# Altium footprint library Connector_Molex.PcbLib: 815 footprints (part 30 of 51)
Each footprint in its own frame and in the unit in brackets; x right, y up, seen from the top. Pads: shape width x height; smd on the part's side, far side on the other; paste and mask are expansions set on the pad; w line width, h text height; cw(c..) or ccw(c..) is an arc to the next point about the centre after c.
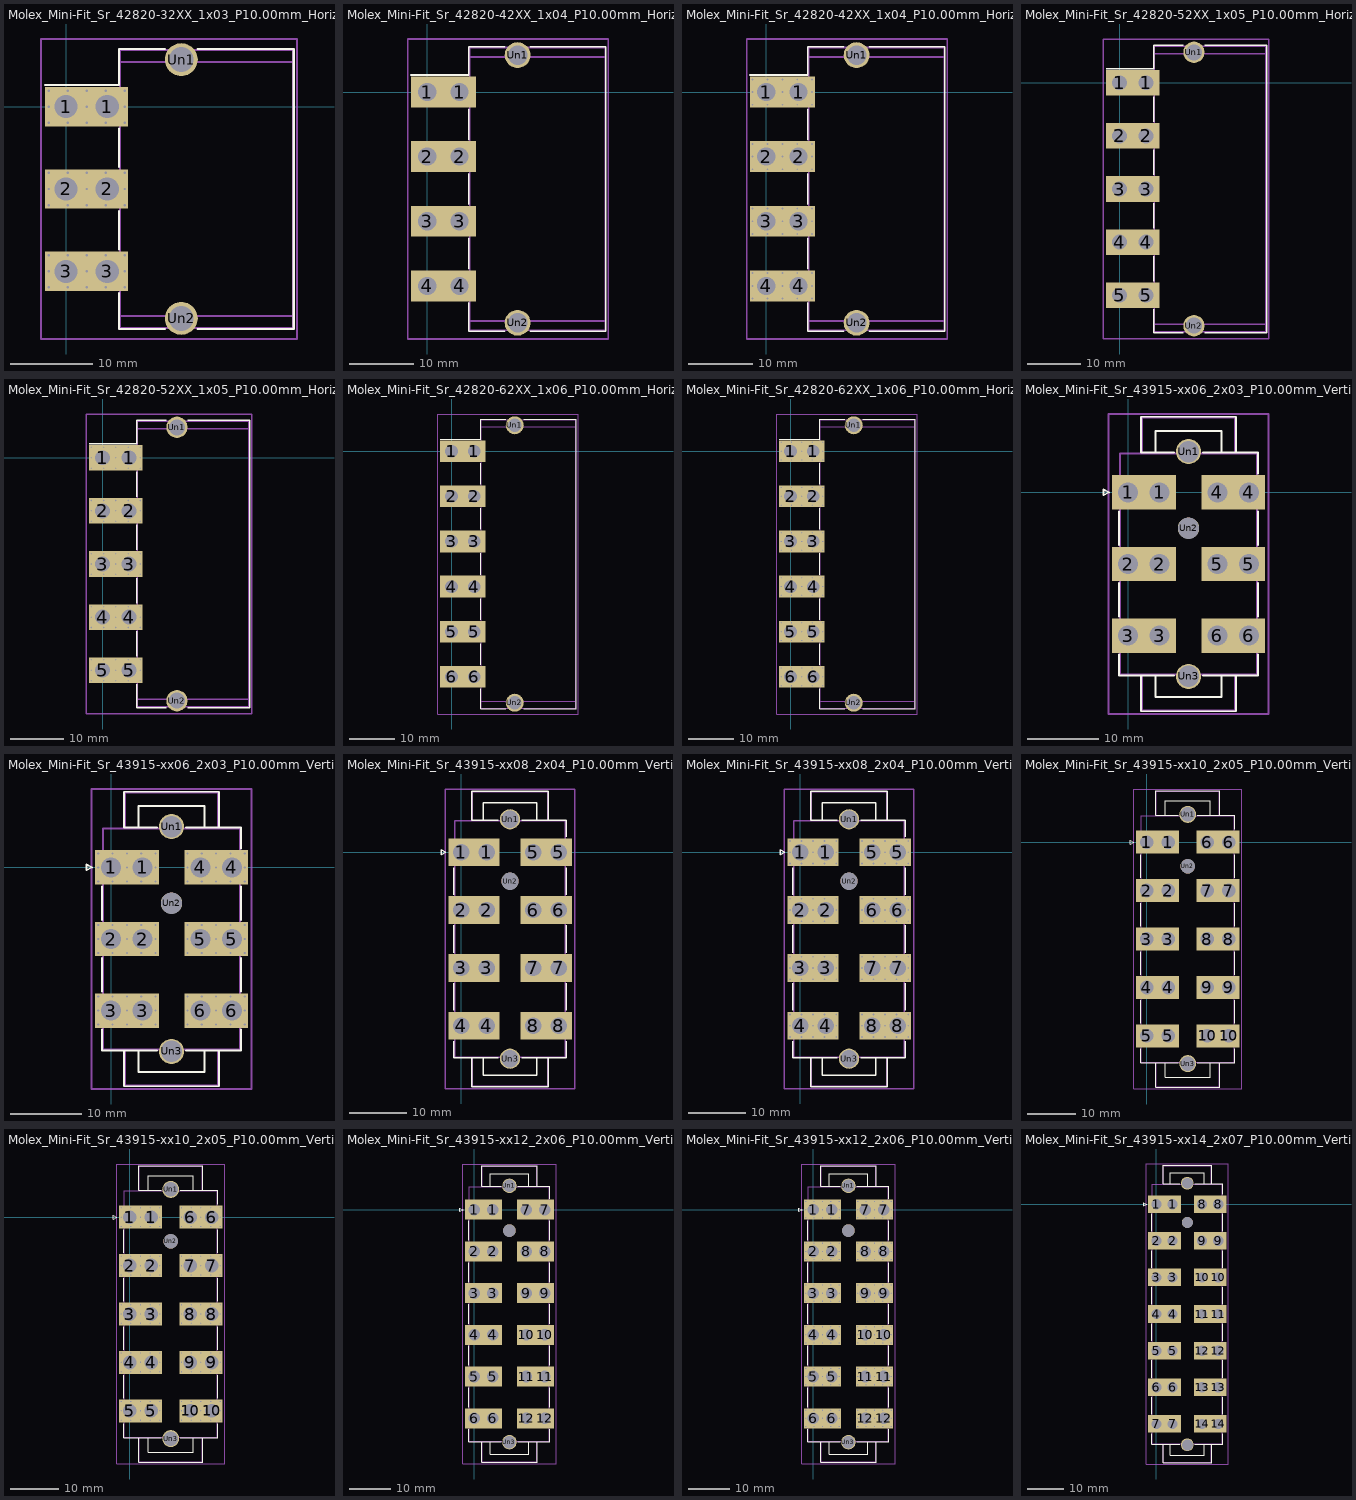
[diagram p29: the footprints below, top view; thin cyan lines are the x and y axes]

## Molex_Mini-Fit_Sr_42820-32XX_1x03_P10.00mm_Horizontal_ThermalVias [mm]
pads (47):
  rrect25% 0.6x0.6 hole 0.3: 1(-2.1,-1.95) 1(-2.1,0) 1(-2.1,1.95) 1(0.2,-1.95) 1(0.2,1.95) 1(2.5,-1.95) 1(2.5,0) 1(2.5,1.95) 1(4.8,-1.95) 1(4.8,1.95) 1(7.1,-1.95) 1(7.1,0) 1(7.1,1.95)
  rect 5.1x4.8 hole 2.8: 1(0,0) 1(5,0) 2(0,-10) 2(5,-10) 3(0,-20) 3(5,-20)
  round 0.6 hole 0.3: 2(-2.1,-11.95) 2(-2.1,-10) 2(-2.1,-8.05) 2(0.2,-11.95) 2(0.2,-8.05) 2(2.5,-11.95) 2(2.5,-10) 2(2.5,-8.05) 2(4.8,-11.95) 2(4.8,-8.05) 2(7.1,-11.95) 2(7.1,-10) 2(7.1,-8.05) 3(-2.1,-21.95) 3(-2.1,-20) 3(-2.1,-18.05) 3(0.2,-21.95) 3(0.2,-18.05) 3(2.5,-21.95) 3(2.5,-20) 3(2.5,-18.05) 3(4.8,-21.95) 3(4.8,-18.05) 3(7.1,-21.95) 3(7.1,-20) 3(7.1,-18.05)
  round 4 hole 3: Un1(14,5.73) Un2(14,-25.73)
F.SilkS:
  lines w0.254: -2.55,2.66 6.45,2.66 6.45,7.02 12,7.02 ; 6.45,-22.66 6.45,-27.02 12,-27.02 ; 6.45,-17.34 6.45,-12.66 ; 6.45,-7.34 6.45,-2.66 ; 16,-27.02 27.67,-27.02 27.67,-10 27.67,7.02 16,7.02
B.SilkS:
  lines w0.254: -2.81,-2.66 -2.81,2.66 7.81,2.66 7.81,-2.66 -2.81,-2.66
Top Assembly:
  lines w0.254: -1.04,-1.2 0.657,0 -1.04,1.2 ; 6.56,-25.45 27.56,-25.45 ; 6.56,-1.2 4.863,0 6.56,1.2 ; 6.56,5.45 27.56,5.45 ; -1.04,-21.9 -1.04,-18.1 6.56,-18.1 6.56,-21.9 -1.04,-21.9 ; -1.04,-11.9 -1.04,-8.1 6.56,-8.1 6.56,-11.9 -1.04,-11.9 ; -1.04,-1.9 -1.04,1.9 6.56,1.9 6.56,-1.9 -1.04,-1.9 ; 6.56,-26.91 6.56,6.91 27.56,6.91 27.56,-26.91 6.56,-26.91
  text "'.Designator'" at 13.013,-25.59 h1
Top Courtyard:
  lines w0.254: -3.05,-28.23 -3.05,8.23 28.06,8.23 28.06,-28.23 -3.05,-28.23
Top Designator:
  text ".Designator" at 4.887,-10.508 h1.52

## Molex_Mini-Fit_Sr_42820-42XX_1x04_P10.00mm_Horizontal [mm]
pads (10):
  rect 5.1x4.8 hole 2.8: 1(0,0) 1(5,0) 2(0,-10) 2(5,-10) 3(0,-20) 3(5,-20) 4(0,-30) 4(5,-30)
  round 4 hole 3: Un1(14,5.73) Un2(14,-35.73)
F.SilkS:
  lines w0.254: -2.55,2.66 6.45,2.66 6.45,7.02 12,7.02 ; 6.45,-32.66 6.45,-37.02 12,-37.02 ; 6.45,-27.34 6.45,-22.66 ; 6.45,-17.34 6.45,-12.66 ; 6.45,-7.34 6.45,-2.66 ; 16,-37.02 27.67,-37.02 27.67,-15 27.67,7.02 16,7.02
B.SilkS:
  lines w0.254: -2.81,-2.66 7.81,-2.66 7.81,2.66 -2.81,2.66 -2.81,-2.66
Top Assembly:
  lines w0.254: -1.04,-1.2 0.657,0 -1.04,1.2 ; 6.56,-35.45 27.56,-35.45 ; 6.56,-1.2 4.863,0 6.56,1.2 ; 6.56,5.45 27.56,5.45 ; -1.04,-31.9 6.56,-31.9 6.56,-28.1 -1.04,-28.1 -1.04,-31.9 ; -1.04,-21.9 6.56,-21.9 6.56,-18.1 -1.04,-18.1 -1.04,-21.9 ; -1.04,-11.9 6.56,-11.9 6.56,-8.1 -1.04,-8.1 -1.04,-11.9 ; -1.04,-1.9 6.56,-1.9 6.56,1.9 -1.04,1.9 -1.04,-1.9 ; 6.56,-36.91 27.56,-36.91 27.56,6.91 6.56,6.91 6.56,-36.91
  text "'.Designator'" at 13.013,-35.59 h1
Top Courtyard:
  lines w0.254: -3.05,-38.24 28.06,-38.24 28.06,8.23 -3.05,8.23 -3.05,-38.24
Top Designator:
  text ".Designator" at 4.887,-15.513 h1.52

## Molex_Mini-Fit_Sr_42820-42XX_1x04_P10.00mm_Horizontal_ThermalVias [mm]
pads (62):
  rrect25% 0.6x0.6 hole 0.3: 1(-2.1,-1.95) 1(-2.1,0) 1(-2.1,1.95) 1(0.2,-1.95) 1(0.2,1.95) 1(2.5,-1.95) 1(2.5,0) 1(2.5,1.95) 1(4.8,-1.95) 1(4.8,1.95) 1(7.1,-1.95) 1(7.1,0) 1(7.1,1.95)
  rect 5.1x4.8 hole 2.8: 1(0,0) 1(5,0) 2(0,-10) 2(5,-10) 3(0,-20) 3(5,-20) 4(0,-30) 4(5,-30)
  round 0.6 hole 0.3: 2(-2.1,-11.95) 2(-2.1,-10) 2(-2.1,-8.05) 2(0.2,-11.95) 2(0.2,-8.05) 2(2.5,-11.95) 2(2.5,-10) 2(2.5,-8.05) 2(4.8,-11.95) 2(4.8,-8.05) 2(7.1,-11.95) 2(7.1,-10) 2(7.1,-8.05) 3(-2.1,-21.95) 3(-2.1,-20) 3(-2.1,-18.05) 3(0.2,-21.95) 3(0.2,-18.05) 3(2.5,-21.95) 3(2.5,-20) 3(2.5,-18.05) 3(4.8,-21.95) 3(4.8,-18.05) 3(7.1,-21.95) 3(7.1,-20) 3(7.1,-18.05) 4(-2.1,-31.95) 4(-2.1,-30) 4(-2.1,-28.05) 4(0.2,-31.95) 4(0.2,-28.05) 4(2.5,-31.95) 4(2.5,-30) 4(2.5,-28.05) 4(4.8,-31.95) 4(4.8,-28.05) 4(7.1,-31.95) 4(7.1,-30) 4(7.1,-28.05)
  round 4 hole 3: Un1(14,5.73) Un2(14,-35.73)
F.SilkS:
  lines w0.254: -2.55,2.66 6.45,2.66 6.45,7.02 12,7.02 ; 6.45,-32.66 6.45,-37.02 12,-37.02 ; 6.45,-27.34 6.45,-22.66 ; 6.45,-17.34 6.45,-12.66 ; 6.45,-7.34 6.45,-2.66 ; 16,-37.02 27.67,-37.02 27.67,-15 27.67,7.02 16,7.02
B.SilkS:
  lines w0.254: -2.81,-2.66 7.81,-2.66 7.81,2.66 -2.81,2.66 -2.81,-2.66
Top Assembly:
  lines w0.254: -1.04,-1.2 0.657,0 -1.04,1.2 ; 6.56,-35.45 27.56,-35.45 ; 6.56,-1.2 4.863,0 6.56,1.2 ; 6.56,5.45 27.56,5.45 ; -1.04,-31.9 6.56,-31.9 6.56,-28.1 -1.04,-28.1 -1.04,-31.9 ; -1.04,-21.9 6.56,-21.9 6.56,-18.1 -1.04,-18.1 -1.04,-21.9 ; -1.04,-11.9 6.56,-11.9 6.56,-8.1 -1.04,-8.1 -1.04,-11.9 ; -1.04,-1.9 6.56,-1.9 6.56,1.9 -1.04,1.9 -1.04,-1.9 ; 6.56,-36.91 27.56,-36.91 27.56,6.91 6.56,6.91 6.56,-36.91
  text "'.Designator'" at 13.013,-35.59 h1
Top Courtyard:
  lines w0.254: -3.05,-38.24 28.06,-38.24 28.06,8.23 -3.05,8.23 -3.05,-38.24
Top Designator:
  text ".Designator" at 4.887,-15.513 h1.52

## Molex_Mini-Fit_Sr_42820-52XX_1x05_P10.00mm_Horizontal [mm]
pads (12):
  rect 5.1x4.8 hole 2.8: 1(0,0) 1(5,0) 2(0,-10) 2(5,-10) 3(0,-20) 3(5,-20) 4(0,-30) 4(5,-30) 5(0,-40) 5(5,-40)
  round 4 hole 3: Un1(14,5.73) Un2(14,-45.73)
F.SilkS:
  lines w0.254: -2.55,2.66 6.45,2.66 6.45,7.02 12,7.02 ; 6.45,-42.66 6.45,-47.02 12,-47.02 ; 6.45,-37.34 6.45,-32.66 ; 6.45,-27.34 6.45,-22.66 ; 6.45,-17.34 6.45,-12.66 ; 6.45,-7.34 6.45,-2.66 ; 16,-47.02 27.67,-47.02 27.67,-20 27.67,7.02 16,7.02
B.SilkS:
  lines w0.254: -2.81,-2.66 -2.81,2.66 7.81,2.66 7.81,-2.66 -2.81,-2.66
Top Assembly:
  lines w0.254: -1.04,-1.2 0.657,0 -1.04,1.2 ; 6.56,-45.45 27.56,-45.45 ; 6.56,-1.2 4.863,0 6.56,1.2 ; 6.56,5.45 27.56,5.45 ; -1.04,-41.9 -1.04,-38.1 6.56,-38.1 6.56,-41.9 -1.04,-41.9 ; -1.04,-31.9 -1.04,-28.1 6.56,-28.1 6.56,-31.9 -1.04,-31.9 ; -1.04,-21.9 -1.04,-18.1 6.56,-18.1 6.56,-21.9 -1.04,-21.9 ; -1.04,-11.9 -1.04,-8.1 6.56,-8.1 6.56,-11.9 -1.04,-11.9 ; -1.04,-1.9 -1.04,1.9 6.56,1.9 6.56,-1.9 -1.04,-1.9 ; 6.56,-46.91 6.56,6.91 27.56,6.91 27.56,-46.91 6.56,-46.91
  text "'.Designator'" at 13.013,-45.59 h1
Top Courtyard:
  lines w0.254: -3.05,-48.23 -3.05,8.23 28.06,8.23 28.06,-48.23 -3.05,-48.23
Top Designator:
  text ".Designator" at 4.887,-20.508 h1.52

## Molex_Mini-Fit_Sr_42820-52XX_1x05_P10.00mm_Horizontal_ThermalVias [mm]
pads (77):
  rrect25% 0.6x0.6 hole 0.3: 1(-2.1,-1.95) 1(-2.1,0) 1(-2.1,1.95) 1(0.2,-1.95) 1(0.2,1.95) 1(2.5,-1.95) 1(2.5,0) 1(2.5,1.95) 1(4.8,-1.95) 1(4.8,1.95) 1(7.1,-1.95) 1(7.1,0) 1(7.1,1.95)
  rect 5.1x4.8 hole 2.8: 1(0,0) 1(5,0) 2(0,-10) 2(5,-10) 3(0,-20) 3(5,-20) 4(0,-30) 4(5,-30) 5(0,-40) 5(5,-40)
  round 0.6 hole 0.3: 2(-2.1,-11.95) 2(-2.1,-10) 2(-2.1,-8.05) 2(0.2,-11.95) 2(0.2,-8.05) 2(2.5,-11.95) 2(2.5,-10) 2(2.5,-8.05) 2(4.8,-11.95) 2(4.8,-8.05) 2(7.1,-11.95) 2(7.1,-10) 2(7.1,-8.05) 3(-2.1,-21.95) 3(-2.1,-20) 3(-2.1,-18.05) 3(0.2,-21.95) 3(0.2,-18.05) 3(2.5,-21.95) 3(2.5,-20) 3(2.5,-18.05) 3(4.8,-21.95) 3(4.8,-18.05) 3(7.1,-21.95) 3(7.1,-20) 3(7.1,-18.05) 4(-2.1,-31.95) 4(-2.1,-30) 4(-2.1,-28.05) 4(0.2,-31.95) 4(0.2,-28.05) 4(2.5,-31.95) 4(2.5,-30) 4(2.5,-28.05) 4(4.8,-31.95) 4(4.8,-28.05) 4(7.1,-31.95) 4(7.1,-30) 4(7.1,-28.05) 5(-2.1,-41.95) 5(-2.1,-40) 5(-2.1,-38.05) 5(0.2,-41.95) 5(0.2,-38.05) 5(2.5,-41.95) 5(2.5,-40) 5(2.5,-38.05) 5(4.8,-41.95) 5(4.8,-38.05) 5(7.1,-41.95) 5(7.1,-40) 5(7.1,-38.05)
  round 4 hole 3: Un1(14,5.73) Un2(14,-45.73)
F.SilkS:
  lines w0.254: -2.55,2.66 6.45,2.66 6.45,7.02 12,7.02 ; 6.45,-42.66 6.45,-47.02 12,-47.02 ; 6.45,-37.34 6.45,-32.66 ; 6.45,-27.34 6.45,-22.66 ; 6.45,-17.34 6.45,-12.66 ; 6.45,-7.34 6.45,-2.66 ; 16,-47.02 27.67,-47.02 27.67,-20 27.67,7.02 16,7.02
B.SilkS:
  lines w0.254: -2.81,-2.66 -2.81,2.66 7.81,2.66 7.81,-2.66 -2.81,-2.66
Top Assembly:
  lines w0.254: -1.04,-1.2 0.657,0 -1.04,1.2 ; 6.56,-45.45 27.56,-45.45 ; 6.56,-1.2 4.863,0 6.56,1.2 ; 6.56,5.45 27.56,5.45 ; -1.04,-41.9 -1.04,-38.1 6.56,-38.1 6.56,-41.9 -1.04,-41.9 ; -1.04,-31.9 -1.04,-28.1 6.56,-28.1 6.56,-31.9 -1.04,-31.9 ; -1.04,-21.9 -1.04,-18.1 6.56,-18.1 6.56,-21.9 -1.04,-21.9 ; -1.04,-11.9 -1.04,-8.1 6.56,-8.1 6.56,-11.9 -1.04,-11.9 ; -1.04,-1.9 -1.04,1.9 6.56,1.9 6.56,-1.9 -1.04,-1.9 ; 6.56,-46.91 6.56,6.91 27.56,6.91 27.56,-46.91 6.56,-46.91
  text "'.Designator'" at 13.013,-45.59 h1
Top Courtyard:
  lines w0.254: -3.05,-48.23 -3.05,8.23 28.06,8.23 28.06,-48.23 -3.05,-48.23
Top Designator:
  text ".Designator" at 4.887,-20.508 h1.52

## Molex_Mini-Fit_Sr_42820-62XX_1x06_P10.00mm_Horizontal [mm]
pads (14):
  rect 5.1x4.8 hole 2.8: 1(0,0) 1(5,0) 2(0,-10) 2(5,-10) 3(0,-20) 3(5,-20) 4(0,-30) 4(5,-30) 5(0,-40) 5(5,-40) 6(0,-50) 6(5,-50)
  round 4 hole 3: Un1(14,5.73) Un2(14,-55.73)
F.SilkS:
  lines w0.254: -2.55,2.66 6.45,2.66 6.45,7.02 12,7.02 ; 6.45,-52.66 6.45,-57.02 12,-57.02 ; 6.45,-47.34 6.45,-42.66 ; 6.45,-37.34 6.45,-32.66 ; 6.45,-27.34 6.45,-22.66 ; 6.45,-17.34 6.45,-12.66 ; 6.45,-7.34 6.45,-2.66 ; 16,-57.02 27.67,-57.02 27.67,-25 27.67,7.02 16,7.02
B.SilkS:
  lines w0.254: -2.81,-2.66 7.81,-2.66 7.81,2.66 -2.81,2.66 -2.81,-2.66
Top Assembly:
  lines w0.254: -1.04,-1.2 0.657,0 -1.04,1.2 ; 6.56,-55.45 27.56,-55.45 ; 6.56,-1.2 4.863,0 6.56,1.2 ; 6.56,5.45 27.56,5.45 ; -1.04,-51.9 6.56,-51.9 6.56,-48.1 -1.04,-48.1 -1.04,-51.9 ; -1.04,-41.9 6.56,-41.9 6.56,-38.1 -1.04,-38.1 -1.04,-41.9 ; -1.04,-31.9 6.56,-31.9 6.56,-28.1 -1.04,-28.1 -1.04,-31.9 ; -1.04,-21.9 6.56,-21.9 6.56,-18.1 -1.04,-18.1 -1.04,-21.9 ; -1.04,-11.9 6.56,-11.9 6.56,-8.1 -1.04,-8.1 -1.04,-11.9 ; -1.04,-1.9 6.56,-1.9 6.56,1.9 -1.04,1.9 -1.04,-1.9 ; 6.56,-56.91 27.56,-56.91 27.56,6.91 6.56,6.91 6.56,-56.91
  text "'.Designator'" at 13.013,-55.59 h1
Top Courtyard:
  lines w0.254: -3.05,-58.23 28.06,-58.23 28.06,8.23 -3.05,8.23 -3.05,-58.23
Top Designator:
  text ".Designator" at 4.887,-25.508 h1.52

## Molex_Mini-Fit_Sr_42820-62XX_1x06_P10.00mm_Horizontal_ThermalVias [mm]
pads (92):
  rrect25% 0.6x0.6 hole 0.3: 1(-2.1,-1.95) 1(-2.1,0) 1(-2.1,1.95) 1(0.2,-1.95) 1(0.2,1.95) 1(2.5,-1.95) 1(2.5,0) 1(2.5,1.95) 1(4.8,-1.95) 1(4.8,1.95) 1(7.1,-1.95) 1(7.1,0) 1(7.1,1.95)
  rect 5.1x4.8 hole 2.8: 1(0,0) 1(5,0) 2(0,-10) 2(5,-10) 3(0,-20) 3(5,-20) 4(0,-30) 4(5,-30) 5(0,-40) 5(5,-40) 6(0,-50) 6(5,-50)
  round 0.6 hole 0.3: 2(-2.1,-11.95) 2(-2.1,-10) 2(-2.1,-8.05) 2(0.2,-11.95) 2(0.2,-8.05) 2(2.5,-11.95) 2(2.5,-10) 2(2.5,-8.05) 2(4.8,-11.95) 2(4.8,-8.05) 2(7.1,-11.95) 2(7.1,-10) 2(7.1,-8.05) 3(-2.1,-21.95) 3(-2.1,-20) 3(-2.1,-18.05) 3(0.2,-21.95) 3(0.2,-18.05) 3(2.5,-21.95) 3(2.5,-20) 3(2.5,-18.05) 3(4.8,-21.95) 3(4.8,-18.05) 3(7.1,-21.95) 3(7.1,-20) 3(7.1,-18.05) 4(-2.1,-31.95) 4(-2.1,-30) 4(-2.1,-28.05) 4(0.2,-31.95) 4(0.2,-28.05) 4(2.5,-31.95) 4(2.5,-30) 4(2.5,-28.05) 4(4.8,-31.95) 4(4.8,-28.05) 4(7.1,-31.95) 4(7.1,-30) 4(7.1,-28.05) 5(-2.1,-41.95) 5(-2.1,-40) 5(-2.1,-38.05) 5(0.2,-41.95) 5(0.2,-38.05) 5(2.5,-41.95) 5(2.5,-40) 5(2.5,-38.05) 5(4.8,-41.95) 5(4.8,-38.05) 5(7.1,-41.95) 5(7.1,-40) 5(7.1,-38.05) 6(-2.1,-51.95) 6(-2.1,-50) 6(-2.1,-48.05) 6(0.2,-51.95) 6(0.2,-48.05) 6(2.5,-51.95) 6(2.5,-50) 6(2.5,-48.05) 6(4.8,-51.95) 6(4.8,-48.05) 6(7.1,-51.95) 6(7.1,-50) 6(7.1,-48.05)
  round 4 hole 3: Un1(14,5.73) Un2(14,-55.73)
F.SilkS:
  lines w0.254: -2.55,2.66 6.45,2.66 6.45,7.02 12,7.02 ; 6.45,-52.66 6.45,-57.02 12,-57.02 ; 6.45,-47.34 6.45,-42.66 ; 6.45,-37.34 6.45,-32.66 ; 6.45,-27.34 6.45,-22.66 ; 6.45,-17.34 6.45,-12.66 ; 6.45,-7.34 6.45,-2.66 ; 16,-57.02 27.67,-57.02 27.67,-25 27.67,7.02 16,7.02
B.SilkS:
  lines w0.254: -2.81,-2.66 7.81,-2.66 7.81,2.66 -2.81,2.66 -2.81,-2.66
Top Assembly:
  lines w0.254: -1.04,-1.2 0.657,0 -1.04,1.2 ; 6.56,-55.45 27.56,-55.45 ; 6.56,-1.2 4.863,0 6.56,1.2 ; 6.56,5.45 27.56,5.45 ; -1.04,-51.9 6.56,-51.9 6.56,-48.1 -1.04,-48.1 -1.04,-51.9 ; -1.04,-41.9 6.56,-41.9 6.56,-38.1 -1.04,-38.1 -1.04,-41.9 ; -1.04,-31.9 6.56,-31.9 6.56,-28.1 -1.04,-28.1 -1.04,-31.9 ; -1.04,-21.9 6.56,-21.9 6.56,-18.1 -1.04,-18.1 -1.04,-21.9 ; -1.04,-11.9 6.56,-11.9 6.56,-8.1 -1.04,-8.1 -1.04,-11.9 ; -1.04,-1.9 6.56,-1.9 6.56,1.9 -1.04,1.9 -1.04,-1.9 ; 6.56,-56.91 27.56,-56.91 27.56,6.91 6.56,6.91 6.56,-56.91
  text "'.Designator'" at 13.013,-55.59 h1
Top Courtyard:
  lines w0.254: -3.05,-58.23 28.06,-58.23 28.06,8.23 -3.05,8.23 -3.05,-58.23
Top Designator:
  text ".Designator" at 4.887,-25.508 h1.52

## Molex_Mini-Fit_Sr_43915-xx06_2x03_P10.00mm_Vertical [mm]
pads (15):
  rect 4.5x4.8 hole 2.8: 1(0,0) 1(4.4,0) 2(0,-10) 2(4.4,-10) 3(0,-20) 3(4.4,-20) 4(12.46,0) 4(16.86,0) 5(12.46,-10) 5(16.86,-10) 6(12.46,-20) 6(16.86,-20)
  round 3.5 hole 3: Un1(8.43,5.705) Un3(8.43,-25.705)
  round 3 hole 3: Un2(8.43,-5)
F.SilkS:
  lines w0.254: -1.27,-22.66 -1.27,-25.57 6.43,-25.57 ; -1.27,-17.34 -1.27,-12.66 ; -1.27,-7.34 -1.27,-2.66 ; 1.81,-25.57 1.81,-30.57 15.05,-30.57 15.05,-25.57 ; 3.81,-25.57 3.81,-28.57 13.05,-28.57 13.05,-25.57 ; 3.81,5.57 3.81,8.57 13.05,8.57 13.05,5.57 ; 6.43,5.57 1.81,5.57 1.81,10.57 15.05,10.57 15.05,5.57 ; 10.43,-25.57 18.13,-25.57 18.13,-22.66 ; 10.43,5.57 18.13,5.57 18.13,2.66 ; 18.13,-17.34 18.13,-12.66 ; 18.13,-7.34 18.13,-2.66 ; -3.45,-0.4 -2.65,0 -3.45,0.4 -3.45,-0.4
B.SilkS:
  lines w0.254: -2.51,-2.66 6.91,-2.66 6.91,2.66 -2.51,2.66 -2.51,-2.66
Top Assembly:
  lines w0.254: -1.15,-1.5 0.971,0 -1.15,1.5 ; 1.93,-25.45 1.93,-30.45 14.93,-30.45 14.93,-25.45 ; 1.93,5.45 1.93,10.45 14.93,10.45 14.93,5.45 ; -1.15,-25.45 18.01,-25.45 18.01,5.45 -1.15,5.45 -1.15,-25.45
  text "'.Designator'" at 4.383,-25.59 h1
Top Courtyard:
  lines w0.254: -2.75,-30.95 19.61,-30.95 19.61,10.95 -2.75,10.95 -2.75,-30.95
Top Designator:
  text ".Designator" at 0.462,-10.508 h1.52

## Molex_Mini-Fit_Sr_43915-xx06_2x03_P10.00mm_Vertical_ThermalVias [mm]
pads (93):
  rrect25% 0.6x0.6 hole 0.3: 1(-1.8,-1.95) 1(-1.8,0) 1(-1.8,1.95) 1(0.2,-1.95) 1(0.2,1.95) 1(2.2,-1.95) 1(2.2,0) 1(2.2,1.95) 1(4.2,-1.95) 1(4.2,1.95) 1(6.2,-1.95) 1(6.2,0) 1(6.2,1.95)
  rect 4.5x4.8 hole 2.8: 1(0,0) 1(4.4,0) 2(0,-10) 2(4.4,-10) 3(0,-20) 3(4.4,-20) 4(12.46,0) 4(16.86,0) 5(12.46,-10) 5(16.86,-10) 6(12.46,-20) 6(16.86,-20)
  round 0.6 hole 0.3: 2(-1.8,-11.95) 2(-1.8,-10) 2(-1.8,-8.05) 2(0.2,-11.95) 2(0.2,-8.05) 2(2.2,-11.95) 2(2.2,-10) 2(2.2,-8.05) 2(4.2,-11.95) 2(4.2,-8.05) 2(6.2,-11.95) 2(6.2,-10) 2(6.2,-8.05) 3(-1.8,-21.95) 3(-1.8,-20) 3(-1.8,-18.05) 3(0.2,-21.95) 3(0.2,-18.05) 3(2.2,-21.95) 3(2.2,-20) 3(2.2,-18.05) 3(4.2,-21.95) 3(4.2,-18.05) 3(6.2,-21.95) 3(6.2,-20) 3(6.2,-18.05) 4(10.66,-1.95) 4(10.66,0) 4(10.66,1.95) 4(12.66,-1.95) 4(12.66,1.95) 4(14.66,-1.95) 4(14.66,0) 4(14.66,1.95) 4(16.66,-1.95) 4(16.66,1.95) 4(18.66,-1.95) 4(18.66,0) 4(18.66,1.95) 5(10.66,-11.95) 5(10.66,-10) 5(10.66,-8.05) 5(12.66,-11.95) 5(12.66,-8.05) 5(14.66,-11.95) 5(14.66,-10) 5(14.66,-8.05) 5(16.66,-11.95) 5(16.66,-8.05) 5(18.66,-11.95) 5(18.66,-10) 5(18.66,-8.05) 6(10.66,-21.95) 6(10.66,-20) 6(10.66,-18.05) 6(12.66,-21.95) 6(12.66,-18.05) 6(14.66,-21.95) 6(14.66,-20) 6(14.66,-18.05) 6(16.66,-21.95) 6(16.66,-18.05) 6(18.66,-21.95) 6(18.66,-20) 6(18.66,-18.05)
  round 3.5 hole 3: Un1(8.43,5.705) Un3(8.43,-25.705)
  round 3 hole 3: Un2(8.43,-5)
F.SilkS:
  lines w0.254: -1.27,-22.66 -1.27,-25.57 6.43,-25.57 ; -1.27,-17.34 -1.27,-12.66 ; -1.27,-7.34 -1.27,-2.66 ; 1.81,-25.57 1.81,-30.57 15.05,-30.57 15.05,-25.57 ; 3.81,-25.57 3.81,-28.57 13.05,-28.57 13.05,-25.57 ; 3.81,5.57 3.81,8.57 13.05,8.57 13.05,5.57 ; 6.43,5.57 1.81,5.57 1.81,10.57 15.05,10.57 15.05,5.57 ; 10.43,-25.57 18.13,-25.57 18.13,-22.66 ; 10.43,5.57 18.13,5.57 18.13,2.66 ; 18.13,-17.34 18.13,-12.66 ; 18.13,-7.34 18.13,-2.66 ; -3.45,-0.4 -2.65,0 -3.45,0.4 -3.45,-0.4
B.SilkS:
  lines w0.254: -2.51,-2.66 6.91,-2.66 6.91,2.66 -2.51,2.66 -2.51,-2.66
Top Assembly:
  lines w0.254: -1.15,-1.5 0.971,0 -1.15,1.5 ; 1.93,-25.45 1.93,-30.45 14.93,-30.45 14.93,-25.45 ; 1.93,5.45 1.93,10.45 14.93,10.45 14.93,5.45 ; -1.15,-25.45 18.01,-25.45 18.01,5.45 -1.15,5.45 -1.15,-25.45
  text "'.Designator'" at 4.383,-25.59 h1
Top Courtyard:
  lines w0.254: -2.75,-30.95 19.61,-30.95 19.61,10.95 -2.75,10.95 -2.75,-30.95
Top Designator:
  text ".Designator" at 0.462,-10.508 h1.52

## Molex_Mini-Fit_Sr_43915-xx08_2x04_P10.00mm_Vertical [mm]
pads (19):
  rect 4.5x4.8 hole 2.8: 1(0,0) 1(4.4,0) 2(0,-10) 2(4.4,-10) 3(0,-20) 3(4.4,-20) 4(0,-30) 4(4.4,-30) 5(12.46,0) 5(16.86,0) 6(12.46,-10) 6(16.86,-10) 7(12.46,-20) 7(16.86,-20) 8(12.46,-30) 8(16.86,-30)
  round 3.5 hole 3: Un1(8.43,5.705) Un3(8.43,-35.705)
  round 3 hole 3: Un2(8.43,-5)
F.SilkS:
  lines w0.254: -1.27,-32.66 -1.27,-35.57 6.43,-35.57 ; -1.27,-27.34 -1.27,-22.66 ; -1.27,-17.34 -1.27,-12.66 ; -1.27,-7.34 -1.27,-2.66 ; 1.81,-35.57 1.81,-40.57 15.05,-40.57 15.05,-35.57 ; 3.81,-35.57 3.81,-38.57 13.05,-38.57 13.05,-35.57 ; 3.81,5.57 3.81,8.57 13.05,8.57 13.05,5.57 ; 6.43,5.57 1.81,5.57 1.81,10.57 15.05,10.57 15.05,5.57 ; 10.43,-35.57 18.13,-35.57 18.13,-32.66 ; 10.43,5.57 18.13,5.57 18.13,2.66 ; 18.13,-27.34 18.13,-22.66 ; 18.13,-17.34 18.13,-12.66 ; 18.13,-7.34 18.13,-2.66 ; -3.45,-0.4 -2.65,0 -3.45,0.4 -3.45,-0.4
B.SilkS:
  lines w0.254: -2.51,-2.66 6.91,-2.66 6.91,2.66 -2.51,2.66 -2.51,-2.66
Top Assembly:
  lines w0.254: -1.15,-1.5 0.971,0 -1.15,1.5 ; 1.93,-35.45 1.93,-40.45 14.93,-40.45 14.93,-35.45 ; 1.93,5.45 1.93,10.45 14.93,10.45 14.93,5.45 ; -1.15,-35.45 18.01,-35.45 18.01,5.45 -1.15,5.45 -1.15,-35.45
  text "'.Designator'" at 4.383,-35.59 h1
Top Courtyard:
  lines w0.254: -2.75,-40.95 19.61,-40.95 19.61,10.95 -2.75,10.95 -2.75,-40.95
Top Designator:
  text ".Designator" at 0.462,-15.508 h1.52

## Molex_Mini-Fit_Sr_43915-xx08_2x04_P10.00mm_Vertical_ThermalVias [mm]
pads (123):
  rrect25% 0.6x0.6 hole 0.3: 1(-1.8,-1.95) 1(-1.8,0) 1(-1.8,1.95) 1(0.2,-1.95) 1(0.2,1.95) 1(2.2,-1.95) 1(2.2,0) 1(2.2,1.95) 1(4.2,-1.95) 1(4.2,1.95) 1(6.2,-1.95) 1(6.2,0) 1(6.2,1.95)
  rect 4.5x4.8 hole 2.8: 1(0,0) 1(4.4,0) 2(0,-10) 2(4.4,-10) 3(0,-20) 3(4.4,-20) 4(0,-30) 4(4.4,-30) 5(12.46,0) 5(16.86,0) 6(12.46,-10) 6(16.86,-10) 7(12.46,-20) 7(16.86,-20) 8(12.46,-30) 8(16.86,-30)
  round 0.6 hole 0.3: 2(-1.8,-11.95) 2(-1.8,-10) 2(-1.8,-8.05) 2(0.2,-11.95) 2(0.2,-8.05) 2(2.2,-11.95) 2(2.2,-10) 2(2.2,-8.05) 2(4.2,-11.95) 2(4.2,-8.05) 2(6.2,-11.95) 2(6.2,-10) 2(6.2,-8.05) 3(-1.8,-21.95) 3(-1.8,-20) 3(-1.8,-18.05) 3(0.2,-21.95) 3(0.2,-18.05) 3(2.2,-21.95) 3(2.2,-20) 3(2.2,-18.05) 3(4.2,-21.95) 3(4.2,-18.05) 3(6.2,-21.95) 3(6.2,-20) 3(6.2,-18.05) 4(-1.8,-31.95) 4(-1.8,-30) 4(-1.8,-28.05) 4(0.2,-31.95) 4(0.2,-28.05) 4(2.2,-31.95) 4(2.2,-30) 4(2.2,-28.05) 4(4.2,-31.95) 4(4.2,-28.05) 4(6.2,-31.95) 4(6.2,-30) 4(6.2,-28.05) 5(10.66,-1.95) 5(10.66,0) 5(10.66,1.95) 5(12.66,-1.95) 5(12.66,1.95) 5(14.66,-1.95) 5(14.66,0) 5(14.66,1.95) 5(16.66,-1.95) 5(16.66,1.95) 5(18.66,-1.95) 5(18.66,0) 5(18.66,1.95) 6(10.66,-11.95) 6(10.66,-10) 6(10.66,-8.05) 6(12.66,-11.95) 6(12.66,-8.05) 6(14.66,-11.95) 6(14.66,-10) 6(14.66,-8.05) 6(16.66,-11.95) 6(16.66,-8.05) 6(18.66,-11.95) 6(18.66,-10) 6(18.66,-8.05) 7(10.66,-21.95) 7(10.66,-20) 7(10.66,-18.05) 7(12.66,-21.95) 7(12.66,-18.05) 7(14.66,-21.95) 7(14.66,-20) 7(14.66,-18.05) 7(16.66,-21.95) 7(16.66,-18.05) 7(18.66,-21.95) 7(18.66,-20) 7(18.66,-18.05) 8(10.66,-31.95) 8(10.66,-30) 8(10.66,-28.05) 8(12.66,-31.95) 8(12.66,-28.05) 8(14.66,-31.95) 8(14.66,-30) 8(14.66,-28.05) 8(16.66,-31.95) 8(16.66,-28.05) 8(18.66,-31.95) 8(18.66,-30) 8(18.66,-28.05)
  round 3.5 hole 3: Un1(8.43,5.705) Un3(8.43,-35.705)
  round 3 hole 3: Un2(8.43,-5)
F.SilkS:
  lines w0.254: -1.27,-32.66 -1.27,-35.57 6.43,-35.57 ; -1.27,-27.34 -1.27,-22.66 ; -1.27,-17.34 -1.27,-12.66 ; -1.27,-7.34 -1.27,-2.66 ; 1.81,-35.57 1.81,-40.57 15.05,-40.57 15.05,-35.57 ; 3.81,-35.57 3.81,-38.57 13.05,-38.57 13.05,-35.57 ; 3.81,5.57 3.81,8.57 13.05,8.57 13.05,5.57 ; 6.43,5.57 1.81,5.57 1.81,10.57 15.05,10.57 15.05,5.57 ; 10.43,-35.57 18.13,-35.57 18.13,-32.66 ; 10.43,5.57 18.13,5.57 18.13,2.66 ; 18.13,-27.34 18.13,-22.66 ; 18.13,-17.34 18.13,-12.66 ; 18.13,-7.34 18.13,-2.66 ; -3.45,-0.4 -2.65,0 -3.45,0.4 -3.45,-0.4
B.SilkS:
  lines w0.254: -2.51,-2.66 6.91,-2.66 6.91,2.66 -2.51,2.66 -2.51,-2.66
Top Assembly:
  lines w0.254: -1.15,-1.5 0.971,0 -1.15,1.5 ; 1.93,-35.45 1.93,-40.45 14.93,-40.45 14.93,-35.45 ; 1.93,5.45 1.93,10.45 14.93,10.45 14.93,5.45 ; -1.15,-35.45 18.01,-35.45 18.01,5.45 -1.15,5.45 -1.15,-35.45
  text "'.Designator'" at 4.383,-35.59 h1
Top Courtyard:
  lines w0.254: -2.75,-40.95 19.61,-40.95 19.61,10.95 -2.75,10.95 -2.75,-40.95
Top Designator:
  text ".Designator" at 0.462,-15.508 h1.52

## Molex_Mini-Fit_Sr_43915-xx10_2x05_P10.00mm_Vertical [mm]
pads (23):
  rect 4.5x4.8 hole 2.8: 1(0,0) 1(4.4,0) 2(0,-10) 2(4.4,-10) 3(0,-20) 3(4.4,-20) 4(0,-30) 4(4.4,-30) 5(0,-40) 5(4.4,-40) 6(12.46,0) 6(16.86,0) 7(12.46,-10) 7(16.86,-10) 8(12.46,-20) 8(16.86,-20) 9(12.46,-30) 9(16.86,-30) 10(12.46,-40) 10(16.86,-40)
  round 3.5 hole 3: Un1(8.43,5.705) Un3(8.43,-45.705)
  round 3 hole 3: Un2(8.43,-5)
F.SilkS:
  lines w0.254: -1.27,-42.66 -1.27,-45.57 6.43,-45.57 ; -1.27,-37.34 -1.27,-32.66 ; -1.27,-27.34 -1.27,-22.66 ; -1.27,-17.34 -1.27,-12.66 ; -1.27,-7.34 -1.27,-2.66 ; 1.81,-45.57 1.81,-50.57 15.05,-50.57 15.05,-45.57 ; 3.81,-45.57 3.81,-48.57 13.05,-48.57 13.05,-45.57 ; 3.81,5.57 3.81,8.57 13.05,8.57 13.05,5.57 ; 6.43,5.57 1.81,5.57 1.81,10.57 15.05,10.57 15.05,5.57 ; 10.43,-45.57 18.13,-45.57 18.13,-42.66 ; 10.43,5.57 18.13,5.57 18.13,2.66 ; 18.13,-37.34 18.13,-32.66 ; 18.13,-27.34 18.13,-22.66 ; 18.13,-17.34 18.13,-12.66 ; 18.13,-7.34 18.13,-2.66 ; -3.45,-0.4 -2.65,0 -3.45,0.4 -3.45,-0.4
B.SilkS:
  lines w0.254: -2.51,-2.66 6.91,-2.66 6.91,2.66 -2.51,2.66 -2.51,-2.66
Top Assembly:
  lines w0.254: -1.15,-1.5 0.971,0 -1.15,1.5 ; 1.93,-45.45 1.93,-50.45 14.93,-50.45 14.93,-45.45 ; 1.93,5.45 1.93,10.45 14.93,10.45 14.93,5.45 ; -1.15,-45.45 18.01,-45.45 18.01,5.45 -1.15,5.45 -1.15,-45.45
  text "'.Designator'" at 4.383,-45.59 h1
Top Courtyard:
  lines w0.254: -2.75,-50.95 19.61,-50.95 19.61,10.95 -2.75,10.95 -2.75,-50.95
Top Designator:
  text ".Designator" at 0.462,-20.508 h1.52

## Molex_Mini-Fit_Sr_43915-xx10_2x05_P10.00mm_Vertical_ThermalVias [mm]
pads (153):
  rrect25% 0.6x0.6 hole 0.3: 1(-1.8,-1.95) 1(-1.8,0) 1(-1.8,1.95) 1(0.2,-1.95) 1(0.2,1.95) 1(2.2,-1.95) 1(2.2,0) 1(2.2,1.95) 1(4.2,-1.95) 1(4.2,1.95) 1(6.2,-1.95) 1(6.2,0) 1(6.2,1.95)
  rect 4.5x4.8 hole 2.8: 1(0,0) 1(4.4,0) 2(0,-10) 2(4.4,-10) 3(0,-20) 3(4.4,-20) 4(0,-30) 4(4.4,-30) 5(0,-40) 5(4.4,-40) 6(12.46,0) 6(16.86,0) 7(12.46,-10) 7(16.86,-10) 8(12.46,-20) 8(16.86,-20) 9(12.46,-30) 9(16.86,-30) 10(12.46,-40) 10(16.86,-40)
  round 0.6 hole 0.3: 2(-1.8,-11.95) 2(-1.8,-10) 2(-1.8,-8.05) 2(0.2,-11.95) 2(0.2,-8.05) 2(2.2,-11.95) 2(2.2,-10) 2(2.2,-8.05) 2(4.2,-11.95) 2(4.2,-8.05) 2(6.2,-11.95) 2(6.2,-10) 2(6.2,-8.05) 3(-1.8,-21.95) 3(-1.8,-20) 3(-1.8,-18.05) 3(0.2,-21.95) 3(0.2,-18.05) 3(2.2,-21.95) 3(2.2,-20) 3(2.2,-18.05) 3(4.2,-21.95) 3(4.2,-18.05) 3(6.2,-21.95) 3(6.2,-20) 3(6.2,-18.05) 4(-1.8,-31.95) 4(-1.8,-30) 4(-1.8,-28.05) 4(0.2,-31.95) 4(0.2,-28.05) 4(2.2,-31.95) 4(2.2,-30) 4(2.2,-28.05) 4(4.2,-31.95) 4(4.2,-28.05) 4(6.2,-31.95) 4(6.2,-30) 4(6.2,-28.05) 5(-1.8,-41.95) 5(-1.8,-40) 5(-1.8,-38.05) 5(0.2,-41.95) 5(0.2,-38.05) 5(2.2,-41.95) 5(2.2,-40) 5(2.2,-38.05) 5(4.2,-41.95) 5(4.2,-38.05) 5(6.2,-41.95) 5(6.2,-40) 5(6.2,-38.05) 6(10.66,-1.95) 6(10.66,0) 6(10.66,1.95) 6(12.66,-1.95) 6(12.66,1.95) 6(14.66,-1.95) 6(14.66,0) 6(14.66,1.95) 6(16.66,-1.95) 6(16.66,1.95) 6(18.66,-1.95) 6(18.66,0) 6(18.66,1.95) 7(10.66,-11.95) 7(10.66,-10) 7(10.66,-8.05) 7(12.66,-11.95) 7(12.66,-8.05) 7(14.66,-11.95) 7(14.66,-10) 7(14.66,-8.05) 7(16.66,-11.95) 7(16.66,-8.05) 7(18.66,-11.95) 7(18.66,-10) 7(18.66,-8.05) 8(10.66,-21.95) 8(10.66,-20) 8(10.66,-18.05) 8(12.66,-21.95) 8(12.66,-18.05) 8(14.66,-21.95) 8(14.66,-20) 8(14.66,-18.05) 8(16.66,-21.95) 8(16.66,-18.05) 8(18.66,-21.95) 8(18.66,-20) 8(18.66,-18.05) 9(10.66,-31.95) 9(10.66,-30) 9(10.66,-28.05) 9(12.66,-31.95) 9(12.66,-28.05) 9(14.66,-31.95) 9(14.66,-30) 9(14.66,-28.05) 9(16.66,-31.95) 9(16.66,-28.05) 9(18.66,-31.95) 9(18.66,-30) 9(18.66,-28.05) 10(10.66,-41.95) 10(10.66,-40) 10(10.66,-38.05) 10(12.66,-41.95) 10(12.66,-38.05) 10(14.66,-41.95) 10(14.66,-40) 10(14.66,-38.05) 10(16.66,-41.95) 10(16.66,-38.05) 10(18.66,-41.95) 10(18.66,-40) 10(18.66,-38.05)
  round 3.5 hole 3: Un1(8.43,5.705) Un3(8.43,-45.705)
  round 3 hole 3: Un2(8.43,-5)
F.SilkS:
  lines w0.254: -1.27,-42.66 -1.27,-45.57 6.43,-45.57 ; -1.27,-37.34 -1.27,-32.66 ; -1.27,-27.34 -1.27,-22.66 ; -1.27,-17.34 -1.27,-12.66 ; -1.27,-7.34 -1.27,-2.66 ; 1.81,-45.57 1.81,-50.57 15.05,-50.57 15.05,-45.57 ; 3.81,-45.57 3.81,-48.57 13.05,-48.57 13.05,-45.57 ; 3.81,5.57 3.81,8.57 13.05,8.57 13.05,5.57 ; 6.43,5.57 1.81,5.57 1.81,10.57 15.05,10.57 15.05,5.57 ; 10.43,-45.57 18.13,-45.57 18.13,-42.66 ; 10.43,5.57 18.13,5.57 18.13,2.66 ; 18.13,-37.34 18.13,-32.66 ; 18.13,-27.34 18.13,-22.66 ; 18.13,-17.34 18.13,-12.66 ; 18.13,-7.34 18.13,-2.66 ; -3.45,-0.4 -2.65,0 -3.45,0.4 -3.45,-0.4
B.SilkS:
  lines w0.254: -2.51,-2.66 6.91,-2.66 6.91,2.66 -2.51,2.66 -2.51,-2.66
Top Assembly:
  lines w0.254: -1.15,-1.5 0.971,0 -1.15,1.5 ; 1.93,-45.45 1.93,-50.45 14.93,-50.45 14.93,-45.45 ; 1.93,5.45 1.93,10.45 14.93,10.45 14.93,5.45 ; -1.15,-45.45 18.01,-45.45 18.01,5.45 -1.15,5.45 -1.15,-45.45
  text "'.Designator'" at 4.383,-45.59 h1
Top Courtyard:
  lines w0.254: -2.75,-50.95 19.61,-50.95 19.61,10.95 -2.75,10.95 -2.75,-50.95
Top Designator:
  text ".Designator" at 0.462,-20.508 h1.52

## Molex_Mini-Fit_Sr_43915-xx12_2x06_P10.00mm_Vertical [mm]
pads (27):
  rect 4.5x4.8 hole 2.8: 1(0,0) 1(4.4,0) 2(0,-10) 2(4.4,-10) 3(0,-20) 3(4.4,-20) 4(0,-30) 4(4.4,-30) 5(0,-40) 5(4.4,-40) 6(0,-50) 6(4.4,-50) 7(12.46,0) 7(16.86,0) 8(12.46,-10) 8(16.86,-10) 9(12.46,-20) 9(16.86,-20) 10(12.46,-30) 10(16.86,-30) 11(12.46,-40) 11(16.86,-40) 12(12.46,-50) 12(16.86,-50)
  round 3.5 hole 3: Un1(8.43,5.705) Un3(8.43,-55.705)
  round 3 hole 3: Un2(8.43,-5)
F.SilkS:
  lines w0.254: -1.27,-52.66 -1.27,-55.57 6.43,-55.57 ; -1.27,-47.34 -1.27,-42.66 ; -1.27,-37.34 -1.27,-32.66 ; -1.27,-27.34 -1.27,-22.66 ; -1.27,-17.34 -1.27,-12.66 ; -1.27,-7.34 -1.27,-2.66 ; 1.81,-55.57 1.81,-60.57 15.05,-60.57 15.05,-55.57 ; 3.81,-55.57 3.81,-58.57 13.05,-58.57 13.05,-55.57 ; 3.81,5.57 3.81,8.57 13.05,8.57 13.05,5.57 ; 6.43,5.57 1.81,5.57 1.81,10.57 15.05,10.57 15.05,5.57 ; 10.43,-55.57 18.13,-55.57 18.13,-52.66 ; 10.43,5.57 18.13,5.57 18.13,2.66 ; 18.13,-47.34 18.13,-42.66 ; 18.13,-37.34 18.13,-32.66 ; 18.13,-27.34 18.13,-22.66 ; 18.13,-17.34 18.13,-12.66 ; 18.13,-7.34 18.13,-2.66 ; -3.45,-0.4 -2.65,0 -3.45,0.4 -3.45,-0.4
B.SilkS:
  lines w0.254: -2.51,-2.66 6.91,-2.66 6.91,2.66 -2.51,2.66 -2.51,-2.66
Top Assembly:
  lines w0.254: -1.15,-1.5 0.971,0 -1.15,1.5 ; 1.93,-55.45 1.93,-60.45 14.93,-60.45 14.93,-55.45 ; 1.93,5.45 1.93,10.45 14.93,10.45 14.93,5.45 ; -1.15,-55.45 18.01,-55.45 18.01,5.45 -1.15,5.45 -1.15,-55.45
  text "'.Designator'" at 4.383,-55.59 h1
Top Courtyard:
  lines w0.254: -2.75,-60.95 19.61,-60.95 19.61,10.95 -2.75,10.95 -2.75,-60.95
Top Designator:
  text ".Designator" at 0.462,-25.508 h1.52

## Molex_Mini-Fit_Sr_43915-xx12_2x06_P10.00mm_Vertical_ThermalVias [mm]
pads (183):
  rrect25% 0.6x0.6 hole 0.3: 1(-1.8,-1.95) 1(-1.8,0) 1(-1.8,1.95) 1(0.2,-1.95) 1(0.2,1.95) 1(2.2,-1.95) 1(2.2,0) 1(2.2,1.95) 1(4.2,-1.95) 1(4.2,1.95) 1(6.2,-1.95) 1(6.2,0) 1(6.2,1.95)
  rect 4.5x4.8 hole 2.8: 1(0,0) 1(4.4,0) 2(0,-10) 2(4.4,-10) 3(0,-20) 3(4.4,-20) 4(0,-30) 4(4.4,-30) 5(0,-40) 5(4.4,-40) 6(0,-50) 6(4.4,-50) 7(12.46,0) 7(16.86,0) 8(12.46,-10) 8(16.86,-10) 9(12.46,-20) 9(16.86,-20) 10(12.46,-30) 10(16.86,-30) 11(12.46,-40) 11(16.86,-40) 12(12.46,-50) 12(16.86,-50)
  round 0.6 hole 0.3: 2(-1.8,-11.95) 2(-1.8,-10) 2(-1.8,-8.05) 2(0.2,-11.95) 2(0.2,-8.05) 2(2.2,-11.95) 2(2.2,-10) 2(2.2,-8.05) 2(4.2,-11.95) 2(4.2,-8.05) 2(6.2,-11.95) 2(6.2,-10) 2(6.2,-8.05) 3(-1.8,-21.95) 3(-1.8,-20) 3(-1.8,-18.05) 3(0.2,-21.95) 3(0.2,-18.05) 3(2.2,-21.95) 3(2.2,-20) 3(2.2,-18.05) 3(4.2,-21.95) 3(4.2,-18.05) 3(6.2,-21.95) 3(6.2,-20) 3(6.2,-18.05) 4(-1.8,-31.95) 4(-1.8,-30) 4(-1.8,-28.05) 4(0.2,-31.95) 4(0.2,-28.05) 4(2.2,-31.95) 4(2.2,-30) 4(2.2,-28.05) 4(4.2,-31.95) 4(4.2,-28.05) 4(6.2,-31.95) 4(6.2,-30) 4(6.2,-28.05) 5(-1.8,-41.95) 5(-1.8,-40) 5(-1.8,-38.05) 5(0.2,-41.95) 5(0.2,-38.05) 5(2.2,-41.95) 5(2.2,-40) 5(2.2,-38.05) 5(4.2,-41.95) 5(4.2,-38.05) 5(6.2,-41.95) 5(6.2,-40) 5(6.2,-38.05) 6(-1.8,-51.95) 6(-1.8,-50) 6(-1.8,-48.05) 6(0.2,-51.95) 6(0.2,-48.05) 6(2.2,-51.95) 6(2.2,-50) 6(2.2,-48.05) 6(4.2,-51.95) 6(4.2,-48.05) 6(6.2,-51.95) 6(6.2,-50) 6(6.2,-48.05) 7(10.66,-1.95) 7(10.66,0) 7(10.66,1.95) 7(12.66,-1.95) 7(12.66,1.95) 7(14.66,-1.95) 7(14.66,0) 7(14.66,1.95) 7(16.66,-1.95) 7(16.66,1.95) 7(18.66,-1.95) 7(18.66,0) 7(18.66,1.95) 8(10.66,-11.95) 8(10.66,-10) 8(10.66,-8.05) 8(12.66,-11.95) 8(12.66,-8.05) 8(14.66,-11.95) 8(14.66,-10) 8(14.66,-8.05) 8(16.66,-11.95) 8(16.66,-8.05) 8(18.66,-11.95) 8(18.66,-10) 8(18.66,-8.05) 9(10.66,-21.95) 9(10.66,-20) 9(10.66,-18.05) 9(12.66,-21.95) 9(12.66,-18.05) 9(14.66,-21.95) 9(14.66,-20) 9(14.66,-18.05) 9(16.66,-21.95) 9(16.66,-18.05) 9(18.66,-21.95) 9(18.66,-20) 9(18.66,-18.05) 10(10.66,-31.95) 10(10.66,-30) 10(10.66,-28.05) 10(12.66,-31.95) 10(12.66,-28.05) 10(14.66,-31.95) 10(14.66,-30) 10(14.66,-28.05) 10(16.66,-31.95) 10(16.66,-28.05) 10(18.66,-31.95) 10(18.66,-30) 10(18.66,-28.05) 11(10.66,-41.95) 11(10.66,-40) 11(10.66,-38.05) 11(12.66,-41.95) 11(12.66,-38.05) 11(14.66,-41.95) 11(14.66,-40) 11(14.66,-38.05) 11(16.66,-41.95) 11(16.66,-38.05) 11(18.66,-41.95) 11(18.66,-40) 11(18.66,-38.05) 12(10.66,-51.95) 12(10.66,-50) 12(10.66,-48.05) 12(12.66,-51.95) 12(12.66,-48.05) 12(14.66,-51.95) 12(14.66,-50) 12(14.66,-48.05) 12(16.66,-51.95) 12(16.66,-48.05) 12(18.66,-51.95) 12(18.66,-50) 12(18.66,-48.05)
  round 3.5 hole 3: Un1(8.43,5.705) Un3(8.43,-55.705)
  round 3 hole 3: Un2(8.43,-5)
F.SilkS:
  lines w0.254: -1.27,-52.66 -1.27,-55.57 6.43,-55.57 ; -1.27,-47.34 -1.27,-42.66 ; -1.27,-37.34 -1.27,-32.66 ; -1.27,-27.34 -1.27,-22.66 ; -1.27,-17.34 -1.27,-12.66 ; -1.27,-7.34 -1.27,-2.66 ; 1.81,-55.57 1.81,-60.57 15.05,-60.57 15.05,-55.57 ; 3.81,-55.57 3.81,-58.57 13.05,-58.57 13.05,-55.57 ; 3.81,5.57 3.81,8.57 13.05,8.57 13.05,5.57 ; 6.43,5.57 1.81,5.57 1.81,10.57 15.05,10.57 15.05,5.57 ; 10.43,-55.57 18.13,-55.57 18.13,-52.66 ; 10.43,5.57 18.13,5.57 18.13,2.66 ; 18.13,-47.34 18.13,-42.66 ; 18.13,-37.34 18.13,-32.66 ; 18.13,-27.34 18.13,-22.66 ; 18.13,-17.34 18.13,-12.66 ; 18.13,-7.34 18.13,-2.66 ; -3.45,-0.4 -2.65,0 -3.45,0.4 -3.45,-0.4
B.SilkS:
  lines w0.254: -2.51,-2.66 6.91,-2.66 6.91,2.66 -2.51,2.66 -2.51,-2.66
Top Assembly:
  lines w0.254: -1.15,-1.5 0.971,0 -1.15,1.5 ; 1.93,-55.45 1.93,-60.45 14.93,-60.45 14.93,-55.45 ; 1.93,5.45 1.93,10.45 14.93,10.45 14.93,5.45 ; -1.15,-55.45 18.01,-55.45 18.01,5.45 -1.15,5.45 -1.15,-55.45
  text "'.Designator'" at 4.383,-55.59 h1
Top Courtyard:
  lines w0.254: -2.75,-60.95 19.61,-60.95 19.61,10.95 -2.75,10.95 -2.75,-60.95
Top Designator:
  text ".Designator" at 0.462,-25.508 h1.52

## Molex_Mini-Fit_Sr_43915-xx14_2x07_P10.00mm_Vertical [mm]
pads (31):
  rect 4.5x4.8 hole 2.8: 1(0,0) 1(4.4,0) 2(0,-10) 2(4.4,-10) 3(0,-20) 3(4.4,-20) 4(0,-30) 4(4.4,-30) 5(0,-40) 5(4.4,-40) 6(0,-50) 6(4.4,-50) 7(0,-60) 7(4.4,-60) 8(12.46,0) 8(16.86,0) 9(12.46,-10) 9(16.86,-10) 10(12.46,-20) 10(16.86,-20) 11(12.46,-30) 11(16.86,-30) 12(12.46,-40) 12(16.86,-40) 13(12.46,-50) 13(16.86,-50) 14(12.46,-60) 14(16.86,-60)
  round 3.5 hole 3: Un1(8.43,5.705) Un3(8.43,-65.705)
  round 3 hole 3: Un2(8.43,-5)
F.SilkS:
  lines w0.254: -1.27,-62.66 -1.27,-65.57 6.43,-65.57 ; -1.27,-57.34 -1.27,-52.66 ; -1.27,-47.34 -1.27,-42.66 ; -1.27,-37.34 -1.27,-32.66 ; -1.27,-27.34 -1.27,-22.66 ; -1.27,-17.34 -1.27,-12.66 ; -1.27,-7.34 -1.27,-2.66 ; 1.81,-65.57 1.81,-70.57 15.05,-70.57 15.05,-65.57 ; 3.81,-65.57 3.81,-68.57 13.05,-68.57 13.05,-65.57 ; 3.81,5.57 3.81,8.57 13.05,8.57 13.05,5.57 ; 6.43,5.57 1.81,5.57 1.81,10.57 15.05,10.57 15.05,5.57 ; 10.43,-65.57 18.13,-65.57 18.13,-62.66 ; 10.43,5.57 18.13,5.57 18.13,2.66 ; 18.13,-57.34 18.13,-52.66 ; 18.13,-47.34 18.13,-42.66 ; 18.13,-37.34 18.13,-32.66 ; 18.13,-27.34 18.13,-22.66 ; 18.13,-17.34 18.13,-12.66 ; 18.13,-7.34 18.13,-2.66 ; -3.45,-0.4 -3.45,0.4 -2.65,0 -3.45,-0.4
B.SilkS:
  lines w0.254: -2.51,-2.66 -2.51,2.66 6.91,2.66 6.91,-2.66 -2.51,-2.66
Top Assembly:
  lines w0.254: -1.15,-1.5 0.971,0 -1.15,1.5 ; 1.93,-65.45 1.93,-70.45 14.93,-70.45 14.93,-65.45 ; 1.93,5.45 1.93,10.45 14.93,10.45 14.93,5.45 ; -1.15,-65.45 -1.15,5.45 18.01,5.45 18.01,-65.45 -1.15,-65.45
  text "'.Designator'" at 4.383,-65.59 h1
Top Courtyard:
  lines w0.254: -2.75,-70.95 -2.75,10.96 19.61,10.96 19.61,-70.95 -2.75,-70.95
Top Designator:
  text ".Designator" at 0.462,-30.503 h1.52